# EAGLE library part AS-ITM-00270 (library tinycircuits)
IC EEPROM 512KBIT 1MHZ 8MINIMAP
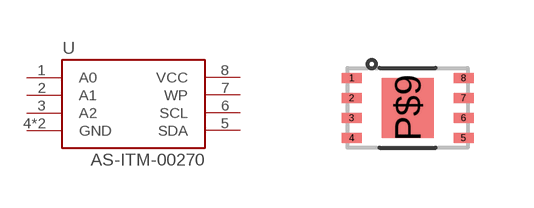
[diagram p109: symbol with the pads of UDFN-8; footprint UDFN-8]

Designator prefix U

## AS-ITM-00270 (PARTNO: AS-ITM-00270; VALUE: AT24C512C)  [UDFN-8]
1  A0
2  A1
3  A2
4  GND
5  SDA
6  SCL
7  WP
8  VCC
P$9  GND

## Footprint UDFN-8 (pad centres in mm)
smd 0.5 x 0.25: 1 -1.4,0.75; 2 -1.4,0.25; 3 -1.4,-0.25; 4 -1.4,-0.75; 5 1.4,-0.75; 6 1.4,-0.25; 7 1.4,0.25; 8 1.4,0.75
smd 1.3 x 1.5: P$9 0,0